# Altium footprint library KQ-130F.PcbLib: 1 footprints
Each footprint in its own frame and in the unit in brackets; x right, y up, seen from the top. Pads: shape width x height; smd on the part's side, far side on the other; paste and mask are expansions set on the pad; w line width, h text height; cw(c..) or ccw(c..) is an arc to the next point about the centre after c.
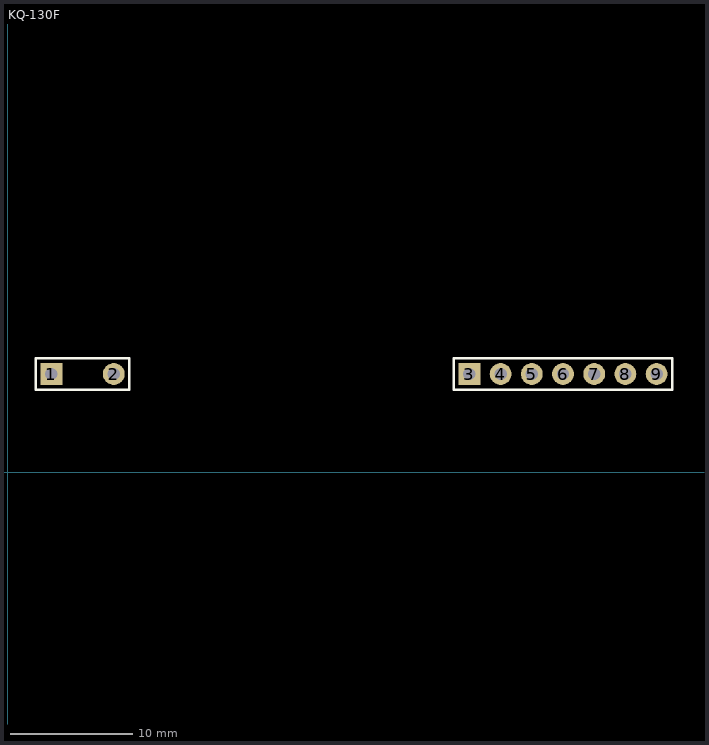
[diagram p0: the footprint, top view; thin cyan lines are the x and y axes]

## KQ-130F [mil]
pads (9):
  rect 70x70 hole 40: 1(140,315) 3(1480,315)
  round 70 hole 40: 2(340,315) 4(1580,315) 5(1680,315) 6(1780,315) 7(1880,315) 8(1980,315) 9(2080,315)
Top Overlay:
  lines w7.87: 90,265 390,265 390,365 90,365 90,265 ; 1430,265 1430,365 2130,365 2130,265 1430,265
3D body "2.54X1_pinheader_male.SLDPRT": height 326.77, standoff -224.41, extent 290.01,265 390.01,365
3D body "2.54X1_pinheader_male.SLDPRT": height 326.77, standoff -224.41, extent 90.01,265 190.01,365
3D body "2.54X1_pinheader_male.SLDPRT": height 326.77, standoff -224.41, extent 2030.01,265.01 2130.01,365.01
3D body "2.54X2_pinheader_male.SLDPRT": height 326.77, standoff -224.41, extent 1830.01,265.01 2030.01,365.01
3D body "2.54X2_pinheader_male.SLDPRT": height 326.77, standoff -224.41, extent 1630.01,265.01 1830.01,365.01
3D body "2.54X2_pinheader_male.SLDPRT": height 326.77, standoff -224.41, extent 1430.01,265 1630.01,365
3D body "KQ-130F.step": height 667.59, standoff -46.85, extent 72.6,120 2147.4,1731.02